# Altium footprint library PCB - CONNECTOR - HARWIN - HARWIN M20-7831545.PcbLib: 1 footprints
Each footprint in its own frame and in the unit in brackets; x right, y up, seen from the top. Pads: shape width x height; smd on the part's side, far side on the other; paste and mask are expansions set on the pad; w line width, h text height; cw(c..) or ccw(c..) is an arc to the next point about the centre after c.
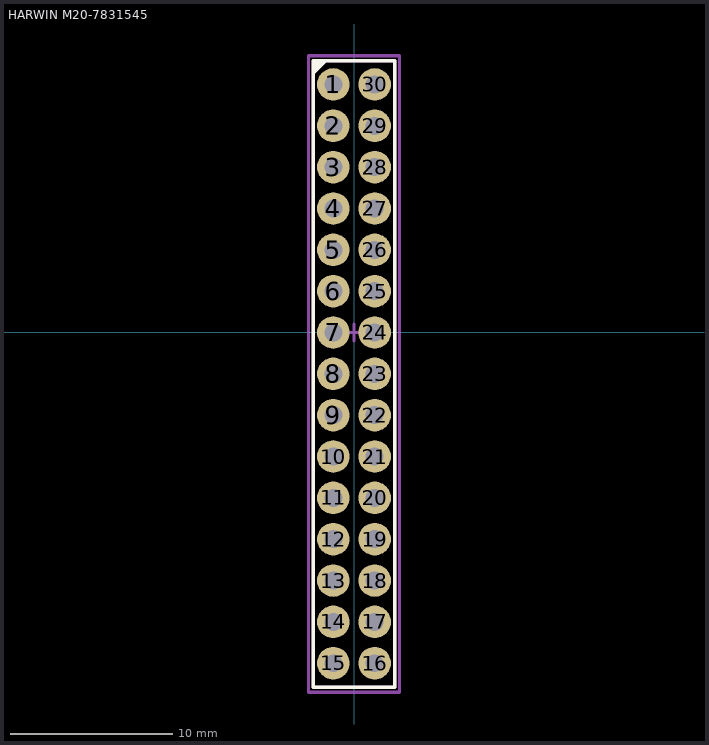
[diagram p0: the footprint, top view; thin cyan lines are the x and y axes]

## HARWIN M20-7831545 [mm] "2.54mm DIL PC TAIL PIN HEADER ASSEMBLY"
height 5
pads (30):
  round 2 hole 1.1: 1(-1.27,15.24) 2(-1.27,12.7) 3(-1.27,10.16) 4(-1.27,7.62) 5(-1.27,5.08) 6(-1.27,2.54) 7(-1.27,0) 8(-1.27,-2.54) 9(-1.27,-5.08) 10(-1.27,-7.62) 11(-1.27,-10.16) 12(-1.27,-12.7) 13(-1.27,-15.24) 14(-1.27,-17.78) 15(-1.27,-20.32) 16(1.27,-20.32) 17(1.27,-17.78) 18(1.27,-15.24) 19(1.27,-12.7) 20(1.27,-10.16) 21(1.27,-7.62) 22(1.27,-5.08) 23(1.27,-2.54) 24(1.27,0) 25(1.27,2.54) 26(1.27,5.08) 27(1.27,7.62) 28(1.27,10.16) 29(1.27,12.7) 30(1.27,15.24)
Top Overlay:
  region: -2.5,16.7 -2.5,15.8 -1.6,16.7
  lines w0.2: -2.5,-21.8 -2.5,16.7 2.5,16.7 2.5,-21.8 -2.5,-21.8
Top Assembly:
  lines w0.2: -0.5,0 0.5,0 ; 0,-0.5 0,0.5 ; -2.5,-21.8 -2.5,16.7 2.5,16.7 2.5,-21.8 -2.5,-21.8
Top Courtyard (Mech15):
  lines w0.2: -2.8,-22.1 -2.8,17 2.8,17 2.8,-22.1 -2.8,-22.1
3D body "M20-7831542.step": height 8.5, standoff -3, extent -2.52,-21.79 2.52,16.71